# EAGLE library part SPI_WANNE (library roboternetz_definitionen)
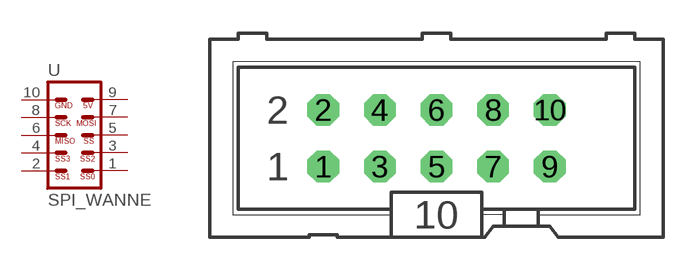
[diagram p6: symbol with the pads of ML10; footprint ML10]

Designator prefix -

## SPI_WANNE  [ML10]
1  1_SS0  pas
2  2_SS1  pas
3  3_SS2  pas
4  4_SS3  pas
5  5_SS  pas
6  6_MISO  pas
7  7_MOSI  pas
8  8_SCK  pas
9  9_5V  pas
10  10_GND  pas

## Footprint ML10 (pad centres in mm)
HARTING
drill 0.914 octagon: 1 -5.08,-1.27; 2 -5.08,1.27; 3 -2.54,-1.27; 4 -2.54,1.27; 5 0,-1.27; 6 0,1.27; 7 2.54,-1.27; 8 2.54,1.27; 9 5.08,-1.27; 10 5.08,1.27